# EAGLE library part SXBP-150+ (library NewSDR)
Minicircuits 140-160 MHz Bandpass Filter
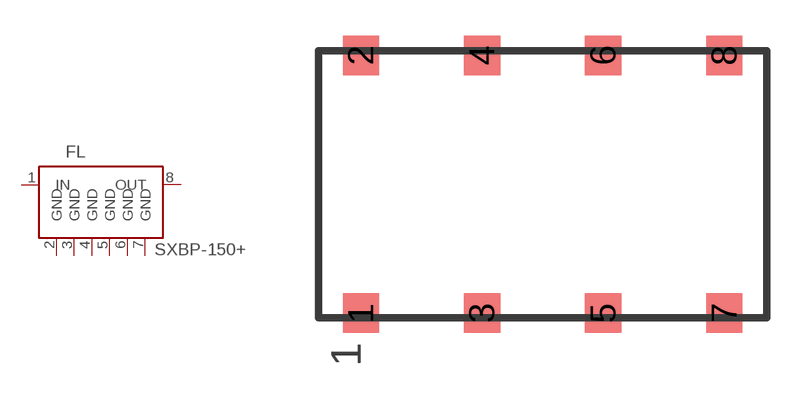
[diagram p181: symbol with the pads of SXBP-150+; footprint SXBP-150+]

Designator prefix FL

## SXBP-150+  [SXBP-150+]
1  IN  pas
2  GND  pwr
3  GND  pwr
4  GND  pwr
5  GND  pwr
6  GND  pwr
7  GND  pwr
8  OUT  pas

## Footprint SXBP-150+ (pad centres in mm)
Minicircuits SXBP Filter Footpring
smd 1.524 x 1.651: 1 -7.62,-5.397; 2 -7.62,5.397; 3 -2.54,-5.397; 4 -2.54,5.397; 5 2.54,-5.397; 6 2.54,5.397; 7 7.62,-5.397; 8 7.62,5.397